# EAGLE library part WE-FB_EP13_SCH3 (library WE-FB)
WE-FB Flyback Transformer suitable for LT3573/ LT3574/ LT3575/ LT3748 Characteristics Easy design-in solution Less external components needed Small board space Low cost No optocoupler needed! Long term reliability voltage control No aging Same external parts for different output voltages Easy design of custom power supply due to standard circuit and change of transformers and two components for feedback loop Isolation voltage up to 2.5 kV Applications Isolated power design Sensor interfaces Isolated telecom converters Power over Ethernet <https://www.we-online.com/catalog/media/o35283v209%20Family_we-fb_LT%20Kits_gruppe.jpg> Details see: www.we-online.com/catalog/WE-FB <www.we-online.com/catalog/WE-FB/?utm_source=eagle_model&utm_medium=description_link&utm_campaign=eisos_eagle> Updated by Ella Wu 2022-07-21 2022 Wurth Elektronik
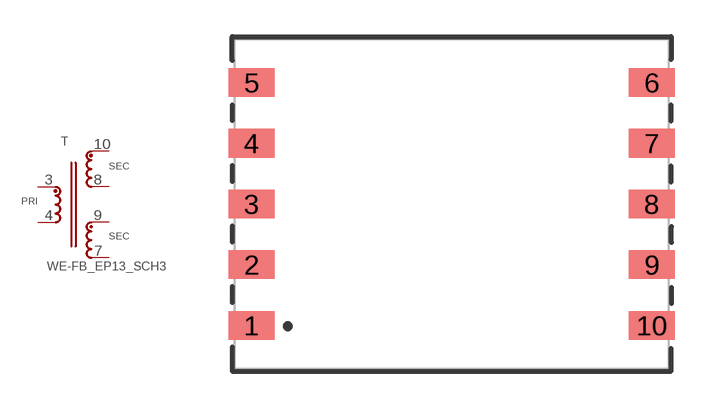
[diagram p13: symbol with the pads of WE-FB_EP13_P16.36; footprint WE-FB_EP13_P16.36]

Designator prefix T

## WE-FB_EP13_SCH3_750311681 (DATASHEET-URL: https://www.we-online.com/redexpert/spec/750311681?ae; IOUT: 0.002A; ISAT: 2A; L: 100uH; LSMIN: 3uH; MOUNT: SMT; N: 1:10:10; PART-NUMBER: 750311681; VALUE: 750311681; VIN: 12V(DC); VOUT: 200V/200V; VT: 1500V(AC))  [WE-FB_EP13_P16.36]
3  1  pas
4  2  pas
7  3  pas
8  5  pas
9  4  pas
10  6  pas

## Footprint WE-FB_EP13_P16.36 (pad centres in mm)
WE-FB Flyback Transformer suitable for LT3573/ LT3574/ LT3575/ LT3748 Size: EP13 SMD 10Pin ,Pitch of PAD =16.36
smd 1.88 x 1.17: 1 -8.18,-4.96; 2 -8.18,-2.48; 3 -8.18,0; 4 -8.18,2.48; 5 -8.18,4.96; 6 8.18,4.96; 7 8.18,2.48; 8 8.18,0; 9 8.18,-2.48; 10 8.18,-4.96